# EAGLE library part 2X16LCDSIDE (library LCD_F330Dmainboard)
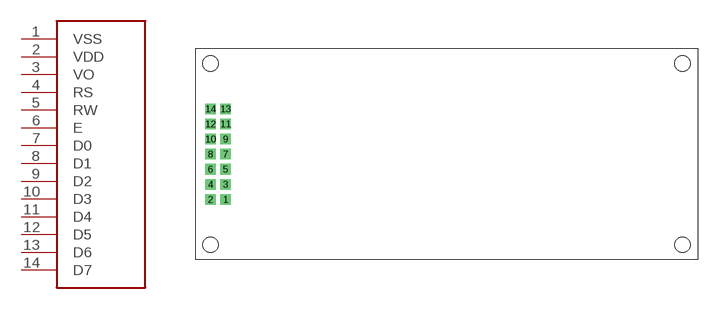
[diagram p0: symbol with the pads of 2X16LCDSIDE; footprint 2X16LCDSIDE]

Designator prefix -

## 2X16LCDSIDE  [2X16LCDSIDE]
1  VSS
2  VDD
3  VO
4  RS
5  RW
6  E
7  D0
8  D1
9  D2
10  D3
11  D4
12  D5
13  D6
14  D7

## Footprint 2X16LCDSIDE (pad centres in mm)
drill 0.85 pad 1.778 square: 1 5.08,10.16; 2 2.54,10.16; 3 5.08,12.7; 4 2.54,12.7; 5 5.08,15.24; 6 2.54,15.24; 7 5.08,17.78; 8 2.54,17.78; 9 5.08,20.32; 10 2.54,20.32; 11 5.08,22.86; 12 2.54,22.86; 13 5.08,25.4; 14 2.54,25.4
hole 2.54 at 2.54,2.54
hole 2.54 at 2.54,33.02
hole 2.54 at 81.915,33.02
hole 2.54 at 81.915,2.54